# EAGLE library part Z8001V (library oldchips)
16-bit CPU Zilog
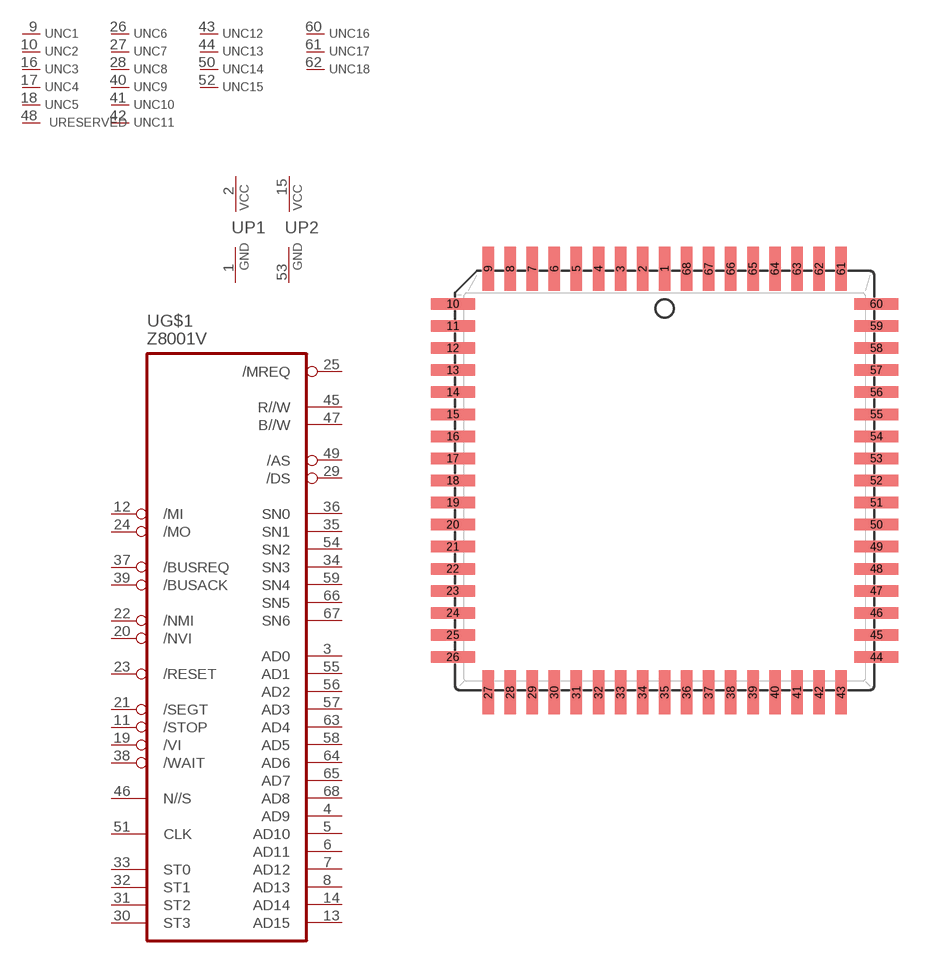
[diagram p16: symbol with the pads of PLCC68; footprint PLCC68]

Designator prefix U; gates G$1=Z8001 P1=PWRN P2=PWRN NC1=NC NC2=NC NC3=NC NC4=NC NC5=NC NC6=NC NC7=NC NC8=NC NC9=NC NC10=NC NC11=NC NC12=NC NC13=NC NC14=NC NC15=NC NC16=NC NC17=NC NC18=NC RESERVED=NU

## Z8001V  [PLCC68]
1  P1:GND  pwr
2  P1:VCC  pwr
3  G$1:AD0
4  G$1:AD9
5  G$1:AD10
6  G$1:AD11
7  G$1:AD12
8  G$1:AD13
9  NC1:NC  nc
10  NC2:NC  nc
11  G$1:/STOP  in
12  G$1:/MI  in
13  G$1:AD15
14  G$1:AD14
15  P2:VCC  pwr
16  NC3:NC  nc
17  NC4:NC  nc
18  NC5:NC  nc
19  G$1:/VI  in
20  G$1:/NVI  in
21  G$1:/SEGT  in
22  G$1:/NMI  in
23  G$1:/RESET  in
24  G$1:/MO  out
25  G$1:/MREQ  out
26  NC6:NC  nc
27  NC7:NC  nc
28  NC8:NC  nc
29  G$1:/DS  out
30  G$1:ST3  out
31  G$1:ST2  out
32  G$1:ST1  out
33  G$1:ST0  out
34  G$1:SN3  out
35  G$1:SN1  out
36  G$1:SN0  out
37  G$1:/BUSREQ  in
38  G$1:/WAIT  in
39  G$1:/BUSACK  out
40  NC9:NC  nc
41  NC10:NC  nc
42  NC11:NC  nc
43  NC12:NC  nc
44  NC13:NC  nc
45  G$1:R//W  out
46  G$1:N//S  out
47  G$1:B//W  out
48  RESERVED:IC-NU  nc
49  G$1:/AS  out
50  NC14:NC  nc
51  G$1:CLK  in
52  NC15:NC  nc
53  P2:GND  pwr
54  G$1:SN2  out
55  G$1:AD1
56  G$1:AD2
57  G$1:AD3
58  G$1:AD5
59  G$1:SN4  out
60  NC16:NC  nc
61  NC17:NC  nc
62  NC18:NC  nc
63  G$1:AD4
64  G$1:AD6
65  G$1:AD7
66  G$1:SN5  out
67  G$1:SN6  out
68  G$1:AD8

## Footprint PLCC68 (pad centres in mm)
Plastic Leaded Chip Carrier
smd 0.66 x 2.54: 1 0,12.192; 2 -1.27,12.192; 3 -2.54,12.192; 4 -3.81,12.192; 5 -5.08,12.192; 6 -6.35,12.192; 7 -7.62,12.192; 8 -8.89,12.192; 9 -10.16,12.192; 27 -10.16,-12.192; 28 -8.89,-12.192; 29 -7.62,-12.192; 30 -6.35,-12.192; 31 -5.08,-12.192; 32 -3.81,-12.192; 33 -2.54,-12.192; 34 -1.27,-12.192; 35 0,-12.192; 36 1.27,-12.192; 37 2.54,-12.192; 38 3.81,-12.192; 39 5.08,-12.192; 40 6.35,-12.192; 41 7.62,-12.192; 42 8.89,-12.192; 43 10.16,-12.192; 61 10.16,12.192; 62 8.89,12.192; 63 7.62,12.192; 64 6.35,12.192; 65 5.08,12.192; 66 3.81,12.192; 67 2.54,12.192; 68 1.27,12.192
smd 2.54 x 0.66: 10 -12.192,10.16; 11 -12.192,8.89; 12 -12.192,7.62; 13 -12.192,6.35; 14 -12.192,5.08; 15 -12.192,3.81; 16 -12.192,2.54; 17 -12.192,1.27; 18 -12.192,0; 19 -12.192,-1.27; 20 -12.192,-2.54; 21 -12.192,-3.81; 22 -12.192,-5.08; 23 -12.192,-6.35; 24 -12.192,-7.62; 25 -12.192,-8.89; 26 -12.192,-10.16; 44 12.192,-10.16; 45 12.192,-8.89; 46 12.192,-7.62; 47 12.192,-6.35; 48 12.192,-5.08; 49 12.192,-3.81; 50 12.192,-2.54; 51 12.192,-1.27; 52 12.192,0; 53 12.192,1.27; 54 12.192,2.54; 55 12.192,3.81; 56 12.192,5.08; 57 12.192,6.35; 58 12.192,7.62; 59 12.192,8.89; 60 12.192,10.16